# Altium schematic symbol library wulpus.SCHLIB: 68 symbols (part 1 of 2)
Pins are listed as number, name and electrical type; pins without a type are passive.

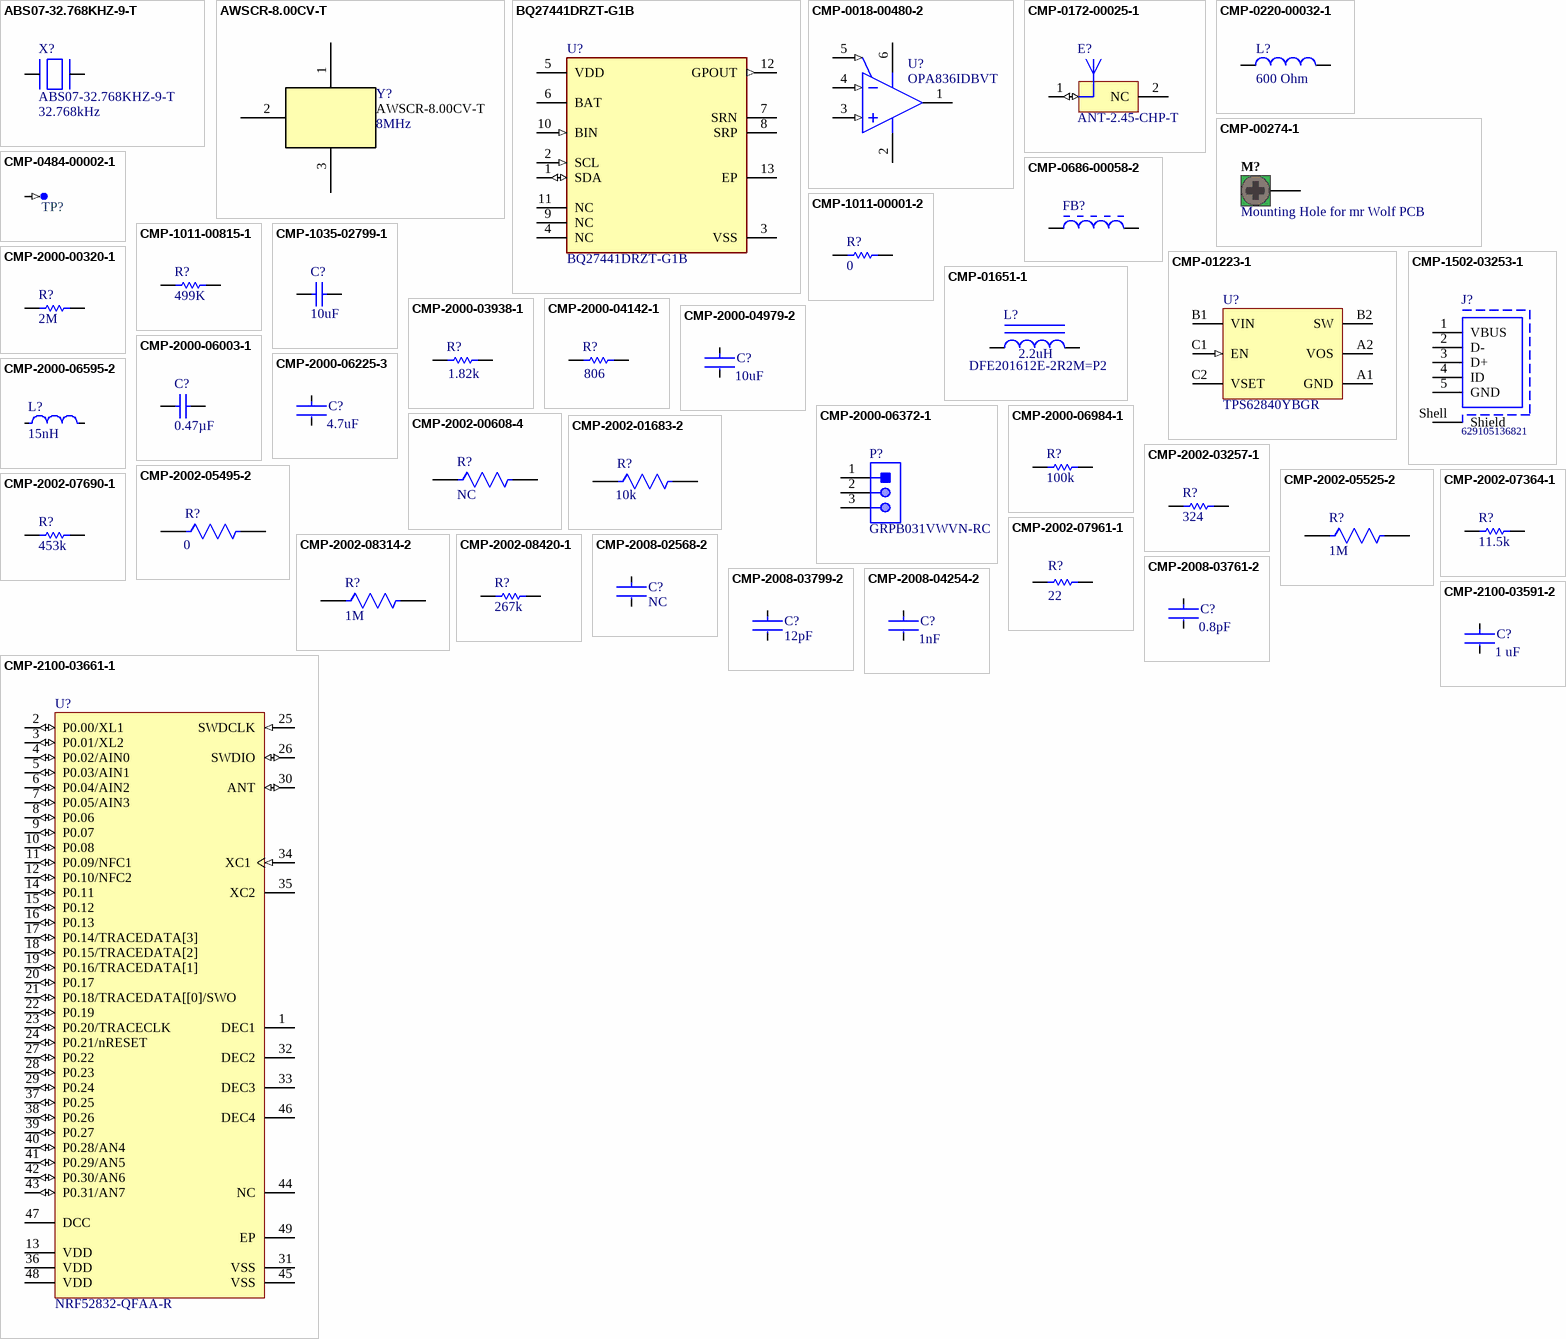
[diagram p0: symbols ABS07-32.768KHZ-9-T to CMP-2100-03661-1]

## ABS07-32.768KHZ-9-T
designator X?  Frequency: 32.768kHz
Crystal; Miniature; 3.2 x 1.5 x 0.9mm; 32.768KHZ; 9pf; 20ppm -40+85C; SMD; T/R; Manufacturer: Abracon; ESR (Equivalent Series Resistance): 70kR; Insulation Resistance: 500MR; Supplier 1: Digi-Key; Manufacturer Part Number: ABS07-32.768KHZ-9-T; RoHS: Yes; Category: Crystals; Stock 1: 83876; Pricing 1: 1=1.36000, 10=1.30000, 50=1.27000, 100=1.08860, 500=1.05840, 1000=0.89208 (USD); Mount: Surface Mount; Case/Package: CSMD; Number of Pins: 2; Min Operating Temperature: -40°C; Max Operating Temperature: 85°C; Load Capacitance: 9pF; Packaging: Tape and Reel; Frequency Tolerance: 20ppm; Package Quantity: 3000; Tolerance: 20ppm; Frequency Stability: 20ppm; Termination: SMD/SMT; Series Resistance: 70kR; Series: ABS07; Operating Frequency: 32.768 kHz; Length: 3.2mm; Width: 1.5mm; Height: 0.035inch; Depth: 1.5mm; Radiation Hardening: No; RoHS Compliant: Yes; REACH SVHC: No SVHC; Lead Free: Lead Free; ComponentLink1URL: https://datasheet.ciiva.com/855/abs07-855948.pdf?src-supplier=Digi-Key; ComponentLink1Description: https://datasheet.ciiva.com/855/abs07-855948.pdf?src-supplier=Digi-Key; Supplier Part Number 1: 535-9544-1-ND
footprint XTAL320X150X90
pins: 1, 2

## AWSCR-8.00CV-T
designator Y?  Frequency: 8MHz  (hidden comment: AWSCR-8.00CV-T)
No Description Available; Mfr_Name: Abracon; Copyright: Copyright (C) 2021 Ultra Librarian. All rights reserved.; RefDes: RefDes; Type: DEV; Manufacturer_Part_Number: AWSCR-8.00CV-T
footprint AWSCR-8.00CV-T_ABR
pins: 1, 2, 3

## BQ27441DRZT-G1B
designator U?
System-side Impedance Track™ battery fuel (gas) gauge 12-SON -40 to 85; Manufacturer: Texas Instruments; Number of Cells: 1; Interface: I2C; Min Supply Voltage: 2.45V; Max Supply Voltage: 4.5V; Output Voltage: 1.8V; Operating Supply Current: 93uA; Capacity: 8000mAh; Output Current: 500uA; Supplier 1: Mouser; Manufacturer Part Number: BQ27441DRZT-G1B; RoHS: Yes; Category: Battery Management; Stock 1: 456; Pricing 1: 1=3.05000, 10=2.74000, 50=2.59000, 100=2.25000, 1000=2.12000, 10000=2.12000 (USD); Mount: Surface Mount; Number of Pins: 12; Contact Plating: Gold; Min Operating Temperature: -40°C; Max Operating Temperature: 85°C; Package Quantity: 250; Packaging: Tape and Reel; REACH SVHC: No SVHC; Lead Free: Lead Free; RoHS Compliant: Yes; ComponentLink1URL: https://datasheet.ciiva.com/46405/1795843-46405045.pdf?src-supplier=Element14; ComponentLink1Description: https://datasheet.ciiva.com/46405/1795843-46405045.pdf?src-supplier=Element14; Supplier Part Number 1: 595-BQ27441DRZT-G1B
footprint DRZ0012A_MFG
pins: 1 SDA (io), 2 SCL (in), 3 VSS (power), 4 NC, 5 VDD (power), 6 BAT, 7 SRN, 8 SRP, 9 NC, 10 BIN (in), 11 NC, 12 GPOUT (out), 13 EP

## CMP-0018-00480-2
designator U?, comment OPA836IDBVT
Very Low Power, Rail to Rail Out, Negative Rail In, VFB Operational Amplifier, 2.5 to 5.5 V, -40 to 125 degC, 6-pin SOT23 (DBV6), Green (RoHS & no Sb/Br); Manufacturer: Texas Instruments; Iq per channel(Max)(mA): 1; Settling Time (0.1%)(Typ)(ns): 30; Vs(Min)(V): 2.5; Vio(Max)(mV): 0.4; 3rd Harmonic(dBc): 105; BW @ Acl(MHz): 205; Vs(Max)(V): 5.5; 2nd Harmonic(dBc): 85; Sub Family: Audio Operational Amplifier, High Output Current Amplifier (>=50mA), High Speed Amplifier (>=50MHz), Low Noise Amp (<=10nV/rtHz), Low Offset Voltage Amplifier (<=500uV), Low Supply Voltage Amplifier (<=2.7V); Vn at Flatband(Typ)(nV/rtHz): 4.6; Iib(Max)(nA): 1000; Slew Rate(Typ)(V/us): 560; Io(Typ)(mA): 50; Number of Channels: 1; Eco-Plan: Green (RoHS & no Sb/Br); PartNumber: OPA836IDBVT; ComponentLink3URL: http://www.ti.com/litv/pdf/mpds026h; ComponentLink3Description: Package Specification; @ MHz: 1; ComponentLink1Description: Manufacturer URL; ComponentLink2URL: http://www.ti.com/general/docs/lit/getliterature.tsp?genericPartNumber=OPA836&fileType=pdf; Acl, min stable gain(V/V): 1; PackageVersion: 4073253-5/K, 03/2006; PackageDescription: 6-Pin Plastic Small Outline, Body 1.6 x 2.9 mm, Pitch 0.95 mm; ComponentLink1URL: http://www.ti.com/; ComponentLink2Description: Datasheet; PackageReference: DBV0006A; Code_JEDEC: MO-178; DatasheetVersion: SLOS712D; Mounting Technology: Surface Mount
footprint DBV0006A_L (SOT23, 6-Leads, Body 3.05x1.75mm, Pitch 0.95mm, IPC High Density)
footprint DBV0006A_M (SOT23, 6-Leads, Body 3.05x1.75mm, Pitch 0.95mm, IPC Low Density)
footprint DBV0006A_N (SOT23, 6-Leads, Body 3.05x1.75mm, Pitch 0.95mm, IPC Medium Density)
pins: 1 VOUT (hiz) "Amplifier output", 2 VS- (power) "Negative power supply input", 3 VIN+ (in) "Amplifier non-inverting input", 4 VIN- (in) "Amplifier inverting input", 5 ~{PD} (in) "Amplifier Power Down, low = low power mode, high = normal operation (PIN MUST BE DRIVEN)", 6 VS+ (power) "Positive power supply input"

## CMP-0172-00025-1
designator E?, comment ANT-2.45-CHP-T
1/4-wave Monopole Ultra-Compact Chip Antenna, CHP Series, 2.4GHz, Tape and Reel; Note2: Pin 1 is feed terminal, Pin 2 is for physical support only.; PCB_Layout: Complies with manufacturer's recommendation.; Note1: No ground planes or traces under the antenna; PackageDescription: SMD Ceramic Antenna, CHP Series, 2.45MHz, 2-Leads, 6.5 x 2.2 x 1.0 mm Body; PackageReference: ANT-2.4-CHP; PackageVersion: Jan-2009; DatasheetVersion: Jan-2009
footprint ANT-2.4-CHP (SM Antenna, 2-Lead, Body 6.5x2.2x1.0mm)
pins: 1 FEED (io), 2 NC

## CMP-0220-00032-1
designator L?, comment Impedance: 600 Ohm  (hidden comment: 742792040)
SMD EMI Suppression Ferrite Bead WE-CBF, Z = 600 Ohm; PackageVersion: 2005; ComponentLink2Description: Datasheet; PackageDescription: Chip Inductor, 2-Leads, Body 2.0 x 1.2 mm; ComponentLink1URL: http://www.we-online.com; PackageReference: SMD-0805; DatasheetVersion: Dec-2005; ComponentLink2URL: http://www.we-online.de/katalog/media/pdf/742792040.pdf; ComponentLink1Description: Manufacturer Link
footprint SMD-0805 (Chip Inductor, 2-Leads, Body 2.0x1.2x1.1 mm)
pins: 1, 2

## CMP-00274-1
designator M?, comment Mounting Hole for mr Wolf PCB  (no BOM)
M2 Hole, 2.4mm drill, 5mm landing pads, 3mm pad in middle layers, no overlay; ClassName: Mounting Hole
footprint Hole M2 (M2 Hole, 2.4mm drill, 5mm landing pads, 3mm pad in middle layers, no overlay)
pins: 1

## CMP-0484-00002-1
designator TP?, comment TP-SM-C-100  (value not drawn)  (no BOM)
Test Point, Surface Mount, Circular, Pad Diameter 1 mm
footprint TP-SM-C-100 (Test Point, Surface Mounting, Circular, Pad Diameter 1mm)
pins: 1 (in)

## CMP-0686-00058-2
designator FB?, comment BLM03AX800SN1D  (value not drawn)
Chip Ferrite Bead for Power lines and Signal Lines, 80 Ohm, 500 mA, -55 to 125 degC, 0.6 x 0.3 x 0.33 mm SMD, Tape and Reel; Manufacturer: Murata; DC Resistance: 0.18 Ohm Max.; Rated Current: 500 mA; Impedance (at 100 MHz): 80 Ohm +/- 25%; Material: Steel; Impedance: 80R; Current Rating: 500mA; DC Resistance (DCR): 180mR; Test Frequency: 100MHz; Tolerance: 25%; Number of Lines: 1; PackageReference: BLM03-2; ComponentLink2URL: http://www.murata.com/products/catalog/pdf/c31e.pdf; ComponentLink2Description: Datasheet; ComponentLink1Description: Manufacturer URL; DatasheetVersion: 08/2013; ComponentLink1URL: http://www.murata.com/; ComponentLink3Description: Package Specification; ComponentLink3URL: http://www.murata.com/products/catalog/pdf/c31e.pdf; PackageDescription: 2-Pin Chip, Body 0.6 x 0.3 mm; Packing: Tape and Reel; Operating Temperature Range: -55 to 125 degC; Mounting Technology: Surface Mount; PartNumber: BLM03AX800SN1D; Supplier 1: Digi-Key; Supplier Part Number 1: 490-5621-1-ND; Manufacturer Part Number: BLM03AX800SN1D; RoHS: Yes; Category: Inductors; Stock 1: 13310; Pricing 1: 1=0.19000, 10=0.15200, 25=0.11840, 50=0.09820, 100=0.08470, 250=0.06776, 500=0.06098, 1000=0.05082, 5000=0.04743 (USD); Case/Package: 0201; Number of Pins: 2; Case Code (Metric): 0603; Case Code (Imperial): 0201; Min Operating Temperature: -55°C; Max Operating Temperature: 125°C; Package Quantity: 1; Packaging: Tape and Reel; Max DC Current: 500mA; Termination: SMD/SMT; Max Current Rating: 500mA; Number of Circuits: 1; Length: 0.6mm; Height: 0.3mm; Width: 0.3mm; REACH SVHC: No SVHC; ComponentLink4URL: https://datasheet.ciiva.com/1013/l0110s0100blm03ax-1013986.pdf?src-supplier=Digi-Key; ComponentLink4Description: https://datasheet.ciiva.com/1013/l0110s0100blm03ax-1013986.pdf?src-supplier=Digi-Key; ComponentLink5URL: https://datasheet.ciiva.com/41449/001172131-da-01-en-drossel-0201-80r-0-6x0-3mm-15000st-41449422.pdf?src-supplier=Conrad; ComponentLink5Description: https://datasheet.ciiva.com/41449/001172131-da-01-en-drossel-0201-80r-0-6x0-3mm-15000st-41449422.pdf?src-supplier=Conrad; ComponentLink6URL: https://datasheet.ciiva.com/1013/l0110e-1013987.pdf?src-supplier=Digi-Key; ComponentLink6Description: https://datasheet.ciiva.com/1013/l0110e-1013987.pdf?src-supplier=Digi-Key; ComponentLink7URL: https://datasheet.ciiva.com/1013/l0110e-1013988.pdf?src-supplier=Digi-Key; ComponentLink7Description: https://datasheet.ciiva.com/1013/l0110e-1013988.pdf?src-supplier=Digi-Key; ComponentLink8URL: https://datasheet.ciiva.com/46423/1851884-46423882.pdf?src-supplier=Element14; ComponentLink8Description: https://datasheet.ciiva.com/46423/1851884-46423882.pdf?src-supplier=Element14
footprint MURA-BLM03-CHIP-2_V (Chip Ferrite Bead, 2-Leads, Body 0.6x0.3mm, Height 0.33mm, Reflow, 0.9A max Rated Current)
pins: 1, 2

## CMP-1011-00001-2
designator R?, comment Resistance: 0  (hidden comment: RC0402JR-070RL)
Manufacturer: Yageo / Phycomp; Part Number: RC0402JR-070RL
footprint RESC1005X40X25NL05T10 (Chip Resistor, 2-Leads, Body 1.00x0.50mm, IPC Medium Density)
footprint RESC1005X40X25ML05T10 (Chip Resistor, 2-Leads, Body 1.00x0.50mm, IPC Low Density)
footprint RESC1005X40X25LL05T10 (Chip Resistor, 2-Leads, Body 1.00x0.50mm, IPC High Density)
pins: 1, 2
1 alternate drawing of the same symbol

## CMP-1011-00815-1
designator R?, comment value 499K  (hidden comment: not mounted)
499K 0.063W 1% 0402 (1005 Metric)  SMD; Case-EIA: 0402; Case-Metric: 1005; Tolerance: 1 %; Power: 0.063 W; Technology: SMT
footprint RESC0402(1005)_N (Chip Resistor, Body 1.0x0.5mm, IPC Medium Density)
footprint RESC0402(1005)_L (Chip Resistor, Body 1.0x0.5mm, IPC High Density)
footprint RESC0402(1005)_M (Chip Resistor, Body 1.0x0.5mm, IPC Low Density)
pins: 1, 2
1 alternate drawing of the same symbol

## CMP-1035-02799-1
designator C?, comment value 10uF  (hidden comment: C1608X5R1A106K080AC)
CAP 10uF 10V ±10% 0603 (1608 Metric) Thickness 1mm SMD; Tolerance: Â±10%; Case-Metric: 1608; Case-EIA: 0603; Max Thickness: 1 mm; Technology: SMT; Rated Voltage: 10 V
footprint CAPC0603(1608)100_N (Chip Capacitor, Body 1.6x0.8mm, Height 1.0mm, IPC Medium Density)
footprint CAPC0603(1608)100_M (Chip Capacitor, Body 1.6x0.8mm, Height 1.0mm, IPC Low Density)
footprint CAPC0603(1608)100_L (Chip Capacitor, Body 1.6x0.8mm, Height 1.0mm, IPC High Density)
pins: 1, 2
1 alternate drawing of the same symbol

## CMP-01223-1
designator U?, comment TPS62840YBGR
Switching Voltage Regulators 60-nA IQ, 1.8-V to 6.5-VIN, high-efficiency 750-mA step-down converter 6-DSBGA -40 to 125; Output Voltage: 1.8 V to 3.3 V; Input Voltage MIN: 1.8 V; Input Voltage: 1.8 V to 6.5 V; Input Voltage MAX: 6.5 V; Brand: Texas Instruments; Switching Frequency: 1.8 MHz; Output Current: 750 mA; Number of Outputs: 1 Output; Topology: Buck; Quiescent Current: 60 nA; Factory Pack Quantity: 3000; Minimum Operating Temperature: - 40 C; Maximum Operating Temperature: + 125 C; Series: TPS62840; Package/Case: DSBGA-6; Shutdown: Shutdown; Manufacturer: Texas Instruments; Mounting Style: SMD/SMT; Type: Step-Down Converter; Supply Voltage - Min: 1.8 V; Product Type: Switching Voltage Regulators; Subcategory: PMIC - Power Management ICs; Product Category: Switching Voltage Regulators
footprint BGA6C40P2X3_97X147X50 (BGA, 6-Leads, Body 0.97x1.47mmx0.50mm, Pitch 0.40mm)
pins: A1 GND (power), A2 VOS, B1 VIN (power), B2 SW (power), C1 EN (in), C2 VSET

## CMP-1502-03253-1
designator J?, comment 629105136821
Micro USB 2.0 Type B Receptacle WR-COM, Horizontal, SMT, with Pads and Pegs; Manufacturer: Wurth Elektronik; Contact Resistance: 30mOhm; Rated Current: 1A; Working Voltage: 30VAC; Datasheet URL: https://katalog.we-online.de/em/datasheet/629105136821.pdf; Mounting Technology: SMT; Publisher: WurthElektronik; Package Reference: 629105136821; Orientation: Horizontal; Packaging: TapeandReel; Part Number: 629105136821; Manufacturer URL: http://www.we-online.de; Connector Type: MicroUSB2.0TypeB; Gender: Receptacle; Operating Temperature: -40to105degC
footprint 629105136821 (Micro USB 2.0 SMT Type B Horizontal 5 Contacts)
pins: 1 VBUS, 2 D-, 3 D+, 4 ID, 5 GND, Shell Shield

## CMP-01651-1
designator L?, comment DFE201612E-2R2M=P2  value 2.2uH
2.2µH Shielded Wirewound Inductor 1.8A 116mOhm Max 0806 (2016 Metric); Manufacturer: Murata Electronics; Inductance: 2,2µH; Current Rating (Amps): 1,8A; Tolerance: ±20%; Material - Core: Metal; Current - Saturation: 2.4A; Inductance Frequency - Test: 1MHz; DC Resistance (DCR): 116mOhm Max; Ratings: -; Series: DFE201612E; Operating Temperature: -40°C ~ 125°C; Features: -; Package / Case: 0806 (2016 Metric); Q @ Freq: -; Packaging: Tape & Reel (TR); Mounting Type: Surface Mount; Frequency - Self Resonant: -; Part Status: Active; Shielding: Shielded; Type: Wirewound; Supplier Device Package: 0806; Manufacturer Part Number: DFE201612E-2R2M=P2
footprint INDC2016X10N (Chip Inductor, 2-Leads, Body 2.05x1.65mm, IPC Medium Density)
footprint INDC2016X10L (Chip Inductor, 2-Leads, Body 2.05x1.65mm, IPC High Density)
footprint INDC2016X10M (Chip Inductor, 2-Leads, Body 2.05x1.65mm, IPC Low Density)
pins: 1, 2

## CMP-2000-00320-1
designator R?, comment Parameter 1: 2M  (hidden comment: RC0603FR-072ML)
Manufacturer: YAEGO; Part Number: RC0603FR-072ML
footprint RESC1608X55X30LL15T15 (Chip Resistor, 2-Leads, Body 1.60x0.80mm, IPC High Density)
footprint RESC1608X55X30NL15T15 (Chip Resistor, 2-Leads, Body 1.60x0.80mm, IPC Medium Density)
footprint RESC1608X55X30ML15T15 (Chip Resistor, 2-Leads, Body 1.60x0.80mm, IPC Low Density)
pins: 1, 2
1 alternate drawing of the same symbol

## CMP-2000-03938-1
designator R?, comment Resistance: 1.82k  (hidden comment: RC0603FR-071K82L)
Manufacturer: Yageo; Part Number: RC0603FR-071K82L
footprint RESC1608X55X25ML10T15 (Chip Resistor, 2-Leads, Body 1.60x0.80mm, IPC Low Density)
footprint RESC1608X55X25LL10T15 (Chip Resistor, 2-Leads, Body 1.60x0.80mm, IPC High Density)
footprint RESC1608X55X25NL10T15 (Chip Resistor, 2-Leads, Body 1.60x0.80mm, IPC Medium Density)
pins: 1, 2
1 alternate drawing of the same symbol

## CMP-2000-04142-1
designator R?, comment Resistance: 806  (hidden comment: RC0603FR-07806RL)
Manufacturer: Yageo; Part Number: RC0603FR-07806RL
footprint RESC1608X55X25LL10T15 (Chip Resistor, 2-Leads, Body 1.60x0.80mm, IPC High Density)
footprint RESC1608X55X25ML10T15 (Chip Resistor, 2-Leads, Body 1.60x0.80mm, IPC Low Density)
footprint RESC1608X55X25NL10T15 (Chip Resistor, 2-Leads, Body 1.60x0.80mm, IPC Medium Density)
pins: 1, 2
1 alternate drawing of the same symbol

## CMP-2000-04979-2
designator C?, comment value 10uF  (hidden comment: C1608X5R1A106K080AC)
CAP CER 10UF 10V X5R 0603; Manufacturer: TDK; Temperature Coefficient: 15%; Tolerance: 10%; Material: Ceramic; Mouser Description: CAP CER 10UF 10V X5R 0603; Package: C1608-080; Lead Free: Yes; Device Class L1: Passive Components; Temperature Range High: +85°C; Manufacturer Part Number: C1608X5R1A106K080AC; Octopart: https://octopart.com/c1608x5r1a106k080ac-tdk-26013468; Voltage: 10V; Footprint Url: https://product.tdk.com/info/en/catalog/spec/mlccspec_commercial_general_midvoltage_en.pdf; Ipc Land Pattern Name: CAPC16080X80; Temperature Range Low: -55°C; Temperature: -55°C to +85°C; ComponentLink2Description: Datasheet; ComponentLink2URL: https://product.tdk.com/info/en/documents/chara_sheet/C1608X5R1A106K080AC.pdf; Height: 0.9mm; Temperature Characteristic: X5R; RoHS: TRUE; Category: Cap; Capacitance: 10uF; Digikey Description: CAP CER 10UF 10V X5R 0603; Automotive: No; Device Class L3: Ceramic Capacitors; Device Class L2: Capacitors; Voltage Rating: 10V
footprint FP-C1608-080-MFG
footprint FP-C1608-080-IPC_C
footprint FP-C1608-080-IPC_B
footprint FP-C1608-080-IPC_A
pins: 1, 2

## CMP-2000-06003-1
designator C?, comment Capacitance: 0.47µF  (hidden comment: C1005X5R1E474K050BB)
Chip Capacitor, 0.47 uF, +/- 10%, 25 V, -55 to 85 degC, 0402 (1005 Metric), RoHS, Tape and Reel; PCN Part Number: MLCCPartNumberChange30/Nov/2012; Manufacturer: TDK; Kits: 445-9021-KIT-ND / -KITMLCC100PF-10UF04026.3-50V; Other Names: 445-8020-1; Temperature Coefficient: X5R; Voltage - Rated: 25V; Product Training Modules: CSeriesGeneralApplicationsSEAT,CCV,andTVCLDesignToolsGuidetoReplacinganElectrolyticCapacitorwithanMLCC; EDA / CAD Models: DownloadfromAcceleratedDesigns; Online Catalog: CSeries,GeneralPurpose; Datasheet URL: https://product.tdk.com/info/en/catalog/datasheets/mlcc_commercial_general_en.pdf; Size / Dimension: 0.039"Lx0.020"W(1.00mmx0.50mm); Category: Capacitors; Mounting Technology: SurfaceMount; Mounting Type: SurfaceMount,MLCC; Series: C; RoHS Information: RoHSCertificate-MLCC; Manufacturer URL: http://www.tdk.com/; Packaging: CutTape(CT); Features: LowESL; Package / Case: 0402(1005Metric); Package Reference: 0402; Family: CeramicCapacitors; Tolerance: ±10%; Datasheet Version: 08/2016; Package Description: 2-Pin Surface Mount Device, Body 1.00 x 0.50 mm; Operating Temperature: -55°C~85°C; Standard Package: 1; Applications: GeneralPurpose
footprint CAPC1050X55X10LL05 (Chip Capacitor, 2-Leads, Body 1.05x0.55mm, IPC High Density)
footprint CAPC1050X55X10ML05 (Chip Capacitor, 2-Leads, Body 1.05x0.55mm, IPC Low Density)
footprint CAPC1050X55X10NL05 (Chip Capacitor, 2-Leads, Body 1.05x0.55mm, IPC Medium Density)
pins: 1, 2

## CMP-2000-06225-3
designator C?, comment Capacitance: 4.7uF  (hidden comment: EMK107ABJ475KA-T)
None; Voltage Rating (DC): 16V; Tolerance: 10%; Dielectric: X5R; Case/Package: 0603; Length: 1.6mm; Case Code (Imperial): 0603; Resistor Type: Ceramic; Packaging: Tape and Reel; Min Operating Temperature: -55°C; Series: M; Construction: Flat; Termination: SMD/SMT; Max Operating Temperature: 85°C; Voltage Rating: 16V; Width: 0.8mm; Case Code (Metric): 1608; Number of Pins: 2; RoHS Compliant: Yes; REACH SVHC: No SVHC; Package Quantity: 1; Thickness: 0.035inch; Height: 0.8mm; Mount: Surface Mount
footprint FP-0603-L_1_6_0_15-W_0_8-IPC_A
footprint FP-0603-L_1_6_0_15-W_0_8-IPC_B
simulation model EMK107ABJ475_A-T
footprint FP-0603-L_1_6_0_15-W_0_8-IPC_C
footprint FP-0603-L_1_6_0_15-W_0_8-MFG
pins: 1, 2

## CMP-2000-06372-1
designator P?, comment GRPB031VWVN-RC
Male Header, Pitch 1.27 mm, 1 x 3 Position, Height 4 mm, Tail Length 2.3 mm, -40 to 105 degC, RoHS, Bulk; Manufacturer: Sullins; Other Names: S9014E-03; Number of Positions: 3; Connector Type: Header,Unshrouded; Pitch: 0.050"(1.27mm); Dynamic Catalog: GRPB; Catalog Drawings: S9014ESeriesTop; Mating Products: S9010E-03-ND / -CONNHEADER.050"3POSR/APCB / S9008E-03-ND / -CONNHEADER.050"3POSPCBGOLD / S9005E-03-ND / -CONNHEADER.050"3POSSMDGOLD; Number of Positions Loaded: All; Contact Finish: Gold; Mounting Type: ThroughHole; Termination: Solder; Packaging: Bulk; Category: Connectors,Interconnects; Package Description: Male Header, Pitch 1.27 mm, 1 x 3 Position, Height 4 mm, Tail Length 2.3 mm; Standard Package: 1; Datasheet URL: http://www.sullinscorp.com/drawings/71_GRPB___1VWVN-RC,_10957-C.pdf; Package Reference: GRPB031VWVN-RC; Family: RectangularConnectors-Headers,MalePins; Number of Rows: 1; Contact Type: MalePin; Manufacturer URL: http://www.sullinscorp.com/; Mounting Technology: ThroughHole; Contact Mating Length: 0.118"(3.00mm); Contact Finish Thickness: Flash; Datasheet Version: Rev. C, 12/2008
footprint SLIN-GRPB031VWVN-RC_V (Header, 3-Leads, Body 3.81x2.14mm, Pitch 1.27mm)
pins: 1, 2, 3

## CMP-2000-06595-2
designator L?, comment Inductance: 15nH  (hidden comment: LQW15AN15NJ00D)
Wire Wound RF Inductor 15nH ±5% 460mA 0.16Ω 0402 (1005); Test Frequency: 100MHz; DC Resistance (DCR): 160mR; Shielding: Unshielded; Q Factor: 30; Core Material: Air; Self Resonant Frequency: 5GHz; Resistor Type: Wirewound; DC Current: 460mA; Weight: 2.8E-05oz; Radiation Hardening: No; Depth: 0.7mm; Package Quantity: 10000; Case/Package: 0402; Packaging: Tape and Reel; Length: 1mm; Max DC Current: 460mA; Case Code (Imperial): 0402; Tolerance: 5%; Min Operating Temperature: -55°C; Lead Free: Lead Free; Width: 0.02inch; Case Code (Metric): 1005; Termination: SMD/SMT; Military Standard: Not; Current Rating: 460mA; Height: 0.5mm; Mount: Surface Mount; Max Operating Temperature: 125°C
footprint FP-LQW15AN_00-W0_6-0_1-MFG
pins: 1, 2

## CMP-2000-06984-1
designator R?, comment Resistance (Ohms): 100k  (hidden comment: RMCF0402FT100K)
Chip Resistor, 100 KOhm, +/- 1%, 63 mW, -55 to 155 degC, 0402 (1005 Metric), RoHS, Tape and Reel; Manufacturer: Stackpole-Electronics-Inc.; Temperature Coefficient: ±100ppm/°C; Power (Watts): 0.063W,1/16W; Category: Resistors; Mounting Technology: SurfaceMount; Family: ChipResistor-SurfaceMount; Package / Case: 0402(1005Metric); Supplier Device Package: 0402; Features: AutomotiveAEC-Q200; Package Reference: 0402; Operating Temperature: -55°C~155°C; Series: RMCF; Number of Terminations: 2; Package Description: 2-Pin Surface Mount Device, Body 1 x 0.5 mm; Datasheet Version: 01/2017; Tolerance: ±1%; Composition: ThickFilm; Packaging: CutTape(CT); Manufacturer URL: https://www.seielect.com/; Datasheet URL: https://www.seielect.com/Catalog/SEI-RMCF_RMCP.pdf
footprint RESC1005X40X25LL10T15 (Chip Resistor, 2-Leads, Body 1.1x0.55mm, IPC High Density)
footprint RESC1005X40X25ML10T15 (Chip Resistor, 2-Leads, Body 1.1x0.55mm, IPC Low Density)
footprint RESC1005X40X25NL10T15 (Chip Resistor, 2-Leads, Body 1.1x0.55mm, IPC Medium Density)
pins: 1, 2

## CMP-2002-00608-4
designator R?  Resistance: NC
not mounted; Voltage Rating (DC): 50V; Tolerance: 1%; Power Rating: 100mW; Temperature Coefficient: 100ppm/°C; Case/Package: 0402; Length: 1mm; Package Quantity: 1; Radiation Hardening: No; Case Code (Metric): 1005; Contact Plating: Tin; Mount: Surface Mount; Depth: 0.5mm; Max Operating Temperature: 155°C; Lead Free: Lead Free; Width: 0.5mm; Composition: Thick Film; Case Code (Imperial): 0402; Termination: SMD/SMT; Number of Pins: 2; Height: 0.35mm; Voltage Rating: 50V; Military Standard: Not; REACH SVHC: No SVHC; Packaging: Tape and Reel; Min Operating Temperature: -55°C; Max Power Dissipation: 100mW; Features: Automotive AEC-Q200; Number of Terminations: 2
footprint FP-ERJ2RK-IPC_C
footprint FP-ERJ2RK-IPC_A
footprint FP-ERJ2RK-IPC_B
footprint FP-ERJ2RK-MFG
pins: 1, 2

## CMP-2002-01683-2
designator R?, comment value 10k  (hidden comment: TNPW040210K0BEED)
RES 10K OHM 0.1% 1/10W 0402; Manufacturer: Vishay; Power Rating: 0.1W; Temperature Coefficient: 25ppm/°C; Automotive Grade: Grade 0; Voltage Rating: 50V; Resistance: 10kΩ; Automotive: Yes; Digikey Description: RES 10K OHM 0.1% 1/10W 0402; Device Class L2: Resistors; Manufacturer Part Number: TNPW040210K0BEED; Temperature: -55°C to +155°C; ComponentLink2Description: Datasheet; Ipc Land Pattern Name: RESC10050X35; Temperature Range High: +155°C; Composition: Thin Film; Tolerance: 0.1%; Device Class L3: Chip SMD Resistors; Package: TNPW0402-e3; Octopart: https://octopart.com/tnpw040210k0beed-vishay-41229038; Device Class L1: Passive Components; Series: TNPW; Temperature Range Low: -55°C; Height: 0.4mm; Category: Res; Lead Free: Yes; RoHS: TRUE; ComponentLink2URL: http://www.vishay.com/docs/28758/tnpw_e3.pdf
footprint FP-TNPW0402-e3-MFG
footprint FP-TNPW0402-e3-IPC_C
footprint FP-TNPW0402-e3-IPC_B
footprint FP-TNPW0402-e3-IPC_A
pins: 1, 2

## CMP-2002-03257-1
designator R?, comment Resistance: 324  (hidden comment: CPF0402B324RE1)
Manufacturer: TE Connectivity / AMP; Part Number: CPF0402B324RE1
footprint RESC1005X35X20ML05T10 (Chip Resistor, 2-Leads, Body 1.00x0.50mm, IPC Low Density)
footprint RESC1005X35X20NL05T10 (Chip Resistor, 2-Leads, Body 1.00x0.50mm, IPC Medium Density)
footprint RESC1005X35X20LL05T10 (Chip Resistor, 2-Leads, Body 1.00x0.50mm, IPC High Density)
pins: 1, 2
1 alternate drawing of the same symbol

## CMP-2002-05495-2
designator R?, comment Resistance: 0  (hidden comment: CR0402-J/-000GLF)
Thick Film Chip Resistors 0402 0Ω 0.0625W 5%; Voltage Rating (DC): 50V; Max Power Dissipation: 63mW; Temperature Coefficient: 500ppm/°C; Power Rating: 62.5mW; Depth: 0.5mm; Packaging: Tape and Reel; REACH SVHC: No SVHC; Max Operating Temperature: 125°C; Case Code (Metric): 1005; Case Code (Imperial): 0402; Case/Package: 0402; Number of Pins: 2; Thickness: 356um; Composition: Thick Film; Voltage Rating: 50V; Min Operating Temperature: -55°C; Tolerance: 5%; Radiation Hardening: No; Height: 0.35mm; Termination: SMD/SMT; Width: 0.5mm; Mount: Surface Mount; Package Quantity: 10000; Contact Plating: Tin; Length: 1mm
footprint FP-CR0402-IPC_B
footprint FP-CR0402-IPC_C
footprint FP-CR0402-IPC_A
footprint FP-CR0402-MFG
pins: 1, 2

## CMP-2002-05525-2
designator R?, comment Resistance: 1M  (hidden comment: CR0402-JW-105GLF)
Thick Film Chip Resistors 0402 1MΩ 0.0625W 5% 200ppm/°C; Voltage Rating: 50V; Max Power Dissipation: 63mW; Power Rating: 62.5mW; Case/Package: 0402; Depth: 0.5mm; Case Code (Imperial): 0402; Width: 0.02inch; Length: 1mm; Tolerance: 5%; Min Operating Temperature: -55°C; Number of Terminations: 2; Thickness: 356um; Case Code (Metric): 1005; Radiation Hardening: No; Height: 0.016inch; Military Standard: Not; Mount: Surface Mount; Termination: SMD/SMT; Composition: Thick Film; Temperature Coefficient: 200ppm/°C; Contact Plating: Tin; Packaging: Tape and Reel; Package Quantity: 10000; Max Operating Temperature: 125°C
footprint FP-CR0402-MFG
footprint FP-CR0402-IPC_C
footprint FP-CR0402-IPC_B
footprint FP-CR0402-IPC_A
pins: 1, 2

## CMP-2002-07364-1
designator R?, comment Resistance: 11.5k  (hidden comment: RC0402FR-0711K5L)
Manufacturer: Yageo / Phycomp; Part Number: RC0402FR-0711K5L
footprint RESC1005X40X25ML05T10 (Chip Resistor, 2-Leads, Body 1.00x0.50mm, IPC Low Density)
footprint RESC1005X40X25LL05T10 (Chip Resistor, 2-Leads, Body 1.00x0.50mm, IPC High Density)
footprint RESC1005X40X25NL05T10 (Chip Resistor, 2-Leads, Body 1.00x0.50mm, IPC Medium Density)
pins: 1, 2
1 alternate drawing of the same symbol

## CMP-2002-07690-1
designator R?, comment Resistance: 453k  (hidden comment: RC0402FR-07453KL)
Manufacturer: Yageo; Part Number: RC0402FR-07453KL
footprint RESC1005X40X25NL05T10 (Chip Resistor, 2-Leads, Body 1.00x0.50mm, IPC Medium Density)
footprint RESC1005X40X25ML05T10 (Chip Resistor, 2-Leads, Body 1.00x0.50mm, IPC Low Density)
footprint RESC1005X40X25LL05T10 (Chip Resistor, 2-Leads, Body 1.00x0.50mm, IPC High Density)
pins: 1, 2
1 alternate drawing of the same symbol

## CMP-2002-07961-1
designator R?, comment Resistance: 22  (hidden comment: RC0402JR-0722RL)
Manufacturer: Yageo / Phycomp; Part Number: RC0402JR-0722RL
footprint RESC1005X40X25NL05T10 (Chip Resistor, 2-Leads, Body 1.00x0.50mm, IPC Medium Density)
footprint RESC1005X40X25LL05T10 (Chip Resistor, 2-Leads, Body 1.00x0.50mm, IPC High Density)
footprint RESC1005X40X25ML05T10 (Chip Resistor, 2-Leads, Body 1.00x0.50mm, IPC Low Density)
pins: 1, 2
1 alternate drawing of the same symbol

## CMP-2002-08314-2
designator R?, comment Resistance: 1M  (hidden comment: CRCW04021M00FKED)
RES Thick Film, 1MΩ, 1%, 0.063W, 100ppm/°C, 0402; Power Rating: 63mW; Voltage Rating (DC): 50V; Min Operating Temperature: -55°C; Lead Free: Lead Free; Case Code (Imperial): 0402; Packaging: Tape and Reel; Case Code (Metric): 1005; Tolerance: 1%; Number of Terminations: 2; Features: Automotive AEC-Q200; Number of Pins: 2; Max Power Dissipation: 63mW; Height: 0.35mm; Weight: 2.3E-05oz; Package Quantity: 10; Contact Plating: Tin; Temperature Coefficient: 100ppm/°C; Radiation Hardening: No; Length: 1mm; Termination: SMD/SMT; Depth: 0.5mm; Case/Package: 0402; Voltage Rating: 50V; Composition: Thick Film; Width: 0.02inch; Max Operating Temperature: 155°C; Military Standard: Not
footprint FP-CRCW0402-e3-MFG
footprint FP-CRCW0402-e3-IPC_C
footprint FP-CRCW0402-e3-IPC_B
footprint FP-CRCW0402-e3-IPC_A
pins: 1, 2

## CMP-2002-08420-1
designator R?, comment Resistance: 267k  (hidden comment: CRCW0402267KFKED)
Manufacturer: Vishay Dale; Part Number: CRCW0402267KFKED
footprint RESC1005X40X25NL05T05 (Chip Resistor, 2-Leads, Body 1.00x0.50mm, IPC Medium Density)
footprint RESC1005X40X25LL05T05 (Chip Resistor, 2-Leads, Body 1.00x0.50mm, IPC High Density)
footprint RESC1005X40X25ML05T05 (Chip Resistor, 2-Leads, Body 1.00x0.50mm, IPC Low Density)
pins: 1, 2
1 alternate drawing of the same symbol

## CMP-2008-02568-2
designator C?, comment Capacitance: NC  (hidden comment: not mounted)
Tolerance: 5%; Voltage: 50V; Insulation Resistance: 1GR; Dielectric: C0G; Dissipation Factor: 2.5%; Temperature Coefficient: 30ppm/°C; Depth: 0.5mm; Max Operating Temperature: 125°C; Contact Plating: Tin; Width: 0.02inch; Radiation Hardening: No; Case/Package: 0402; Voltage Rating: 50V; Packaging: Tape and Reel; Termination: SMD/SMT; REACH SVHC: No SVHC; Case Code (Metric): 1005; Mount: Surface Mount; Package Quantity: 1; Height: 0.56mm; Construction: Flat; Case Code (Imperial): 0402; RoHS Compliant: Yes; Voltage Rating (DC): 50V; Thickness: 0.022inch; Series: -; Min Operating Temperature: -55°C; Lead Free: Lead Free; Length: 1mm
footprint FP-04025A101JAT2A-MFG
footprint FP-04025A101JAT2A-IPC_C
footprint FP-04025A101JAT2A-IPC_B
footprint FP-04025A101JAT2A-IPC_A
pins: 1, 2

## CMP-2008-03761-2
designator C?, comment Capacitance: 0.8pF  (hidden comment: GJM1555C1HR80WB01D)
Multi-Layer Ceramic Capacitor 0.8pF C0G  ±0.05pF 0402 Paper T/R; Voltage Rating: 50V; Height: 0.5mm; Package Quantity: 10000; Min Operating Temperature: -55°C; Dielectric: C0G; Max Operating Temperature: 125°C; Case Code (Metric): 1005; Thickness: 0.022inch; Width: 0.02inch; Radiation Hardening: No; Packaging: Tape and Reel; Case Code (Imperial): 0402; Case/Package: 0402; Mount: Surface Mount; Voltage Rating (DC): 50V; Termination: SMD/SMT; Depth: 0.5mm; Length: 1mm
footprint FP-GJM155-0_05-IPC_A
footprint FP-GJM155-0_05-MFG
footprint FP-GJM155-0_05-IPC_B
footprint FP-GJM155-0_05-IPC_C
pins: 1, 2

## CMP-2008-03799-2
designator C?, comment Capacitance: 12pF  (hidden comment: GJM1555C1H120GB01D)
Multi-Layer Ceramic Capacitor 12pF C0G  ±2% 0402 Paper T/R; Voltage Rating: 50V; Tolerance: 2%; Length: 1mm; Width: 0.5mm; Thickness: 0.022inch; Package Quantity: 10000; Lead Free: Lead Free; Mount: Surface Mount; Voltage Rating (DC): 50V; Max Operating Temperature: 125°C; Termination: SMD/SMT; Depth: 0.5mm; Min Operating Temperature: -55°C; Height: 0.5mm; Case Code (Imperial): 0402; Case/Package: 0402; Case Code (Metric): 1005; Dielectric: C0G; Packaging: Tape and Reel; Radiation Hardening: No
footprint FP-GJM155-0_05-IPC_A
footprint FP-GJM155-0_05-MFG
footprint FP-GJM155-0_05-IPC_C
footprint FP-GJM155-0_05-IPC_B
pins: 1, 2

## CMP-2008-04254-2
designator C?, comment Capacitance: 1nF  (hidden comment: GRM1555C1H102JA01D)
Chip Multilayer Ceramic Capacitors for General Purpose, 0402, 1000pF, C0G, 30ppm/°C, 5%, 50V; Insulation Resistance: 10GR; Packaging: Tape and Reel; Lead Free: Lead Free; Tolerance: 5%; Temperature Coefficient: 30ppm/°C; Thickness: 0.022inch; Termination: SMD/SMT; Max Operating Temperature: 125°C; Height: 0.5mm; Package Quantity: 1; Radiation Hardening: No; Material: Ceramic; Case Code (Metric): 1005; Number of Pins: 2; Voltage Rating: 50V; Mount: Surface Mount; Voltage: 50V; Case/Package: 0402; Min Operating Temperature: -55°C; Dielectric Material: Ceramic; Width: 0.5mm; Depth: 0.5mm; Case Code (Imperial): 0402; REACH SVHC: No SVHC; Dielectric: C0G; Voltage Rating (DC): 50V; Length: 1mm
footprint FP-GRM155-0_05-IPC_B
footprint FP-GRM155-0_05-IPC_A
footprint FP-GRM155-0_05-MFG
footprint FP-GRM155-0_05-IPC_C
pins: 1, 2

## CMP-2100-03591-2
designator C?, comment Capacitance: 1 uF  (hidden comment: CC0402KRX5R5BB105)
CAP CER 1UF 6.3V X5R 0402; Manufacturer: YAGEO; Automotive Grade: NA; Material: Ceramic; Tolerance: 0.1; Temperature Coefficient: 30ppm/°C; Voltage Rating: 6.3 V; Temperature Range Low: -55°C; Digikey Description: CAP CER 1UF 6.3V X5R 0402; Height: 0.55mm; Automotive: No; ComponentLink2URL: http://www.yageo.com/documents/recent/UPY-GP_NP0_16V-to-50V_16.pdf; Device Class L2: Capacitors; RoHS: TRUE; Temperature Range High: +125°C; Device Class L3: Ceramic Capacitors; Device Class L1: Passive Components; Temperature Characteristic: X5R; Package: CC0402; Octopart: https://octopart.com/cc0402krx5r5bb105-yageo-42244618; ComponentLink2Description: Datasheet; Temperature: -55°C to +125°C; Manufacturer Part Number: CC0402KRX5R5BB105; Mouser Description: Multilayer Ceramic Capacitors MLCC - SMD/SMT 1uF 6.3V X5R 10%; Category: Cap; Footprint Url: http://www.yageo.com/exep/pages/download/literatures/UPY-C_GEN_24.pdf; Lead Free: Yes; Ipc Land Pattern Name: CAPC10050X50; Value: 1 uF
footprint FP-CC0402-MFG
footprint FP-CC0402-IPC_C
footprint FP-CC0402-IPC_B
footprint FP-CC0402-IPC_A
pins: 1, 2

## CMP-2100-03661-1
designator U?, comment NRF52832-QFAA-R
Multiprotocol Bluetooth Smart, ANT/ANT+ and Proprietary System-on-Chip, 2.4 GHz, 256 KB FLASH, 1.7 to 3.6 V, -40 to 85 degC, 48-Pin QFN, RoHS, Tape and Reel; Manufacturer: Nordic Semiconductor; Frequency: 2.4GHz; Datasheet Version: Rev. 1.0, 02/2016; Datasheet URL: http://infocenter.nordicsemi.com/pdf/nRF52832_PS_v1.0.pdf; Mount: SurfaceMount; Max Operating Temperature: 85degC; Manufacturer URL: http://www.nordicsemi.com/eng/Products/; Lead Free: LeadFree; Min Operating Temperature: -40degC; RoHSCompliant: true; Package Reference: QF-48; Package Description: 48-Pin Quad Flat No-lead Package, Body 6 x 6 mm, Pitch 0.4 mm, Thermal Pad 4.6 x 4.6 mm; Max Frequency: 2.4GHz; Packaging: TapeandReel
footprint NRSC-QF-48_M (QFN, 48-Leads, Body 6.00x6.00mm, Pitch 0.40mm, Thermal Pad 4.60x4.60mm, IPC Low Density)
footprint NRSC-QF-48_N (QFN, 48-Leads, Body 6.00x6.00mm, Pitch 0.40mm, Thermal Pad 4.60x4.60mm, IPC Medium Density)
footprint NRSC-QF-48_L (QFN, 48-Leads, Body 6.00x6.00mm, Pitch 0.40mm, Thermal Pad 4.60x4.60mm, IPC High Density)
pins: 1 DEC1 "Power supply decoupling.", 2 P0.00/XL1 (io), 3 P0.01/XL2 (io), 4 P0.02/AIN0 (io), 5 P0.03/AIN1 (io), 6 P0.04/AIN2 (io), 7 P0.05/AIN3 (io), 8 P0.06 (io) "General purpose I/O pin.", 9 P0.07 (io) "General purpose I/O pin.", 10 P0.08 (io) "General purpose I/O pin.", 11 P0.09/NFC1 (io), 12 P0.10/NFC2 (io), 13 VDD (power) "Power-supply pin.", 14 P0.11 (io) "General purpose I/O pin.", 15 P0.12 (io) "General purpose I/O pin.", 16 P0.13 (io) "General purpose I/O pin.", 17 P0.14/TRACEDATA[3] (io), 18 P0.15/TRACEDATA[2] (io), 19 P0.16/TRACEDATA[1] (io), 20 P0.17 (io) "General purpose I/O pin", 21 P0.18/TRACEDATA[[0]/SWO (io), 22 P0.19 (io) "General purpose I/O pin", 23 P0.20/TRACECLK (io), 24 P0.21/nRESET (io), 25 SWDCLK (in) "Serial Wire Debug clock input for debug and programming.", 26 SWDIO (io) "Serial Wire Debug I/O for debug and programming.", 27 P0.22 (io) "General purpose I/O pin", 28 P0.23 (io) "General purpose I/O pin", 29 P0.24 (io) "General purpose I/O pin", 30 ANT (io) "Single-ended radio antenna connection.", 31 VSS (power) "Ground pin (Radio supply).", 32 DEC2 "1V3 regulator supply decoupling", 33 DEC3 "Power supply decoupling.", 34 XC1 (in) "Connection for 32 MHz crystal.", 35 XC2 "Connection for 32 MHz crystal.", 36 VDD (power) "Power-supply pin.", 37 P0.25 (io) "General purpose I/O pin", 38 P0.26 (io) "General purpose I/O pin", 39 P0.27 (io) "General purpose I/O pin", 40 P0.28/AN4 (io), 41 P0.29/AN5 (io), 42 P0.30/AN6 (io), 43 P0.31/AN7 (io), 44 NC "No connect pin. Leave unconnected.", 45 VSS (power) "Ground Pin.", 46 DEC4 "1V3 regulator supply decoupling.", 47 DCC (power) "DC/DC regulator output pin", 48 VDD (power) "Power-supply pin.", 49 EP (power) "Ground pad."

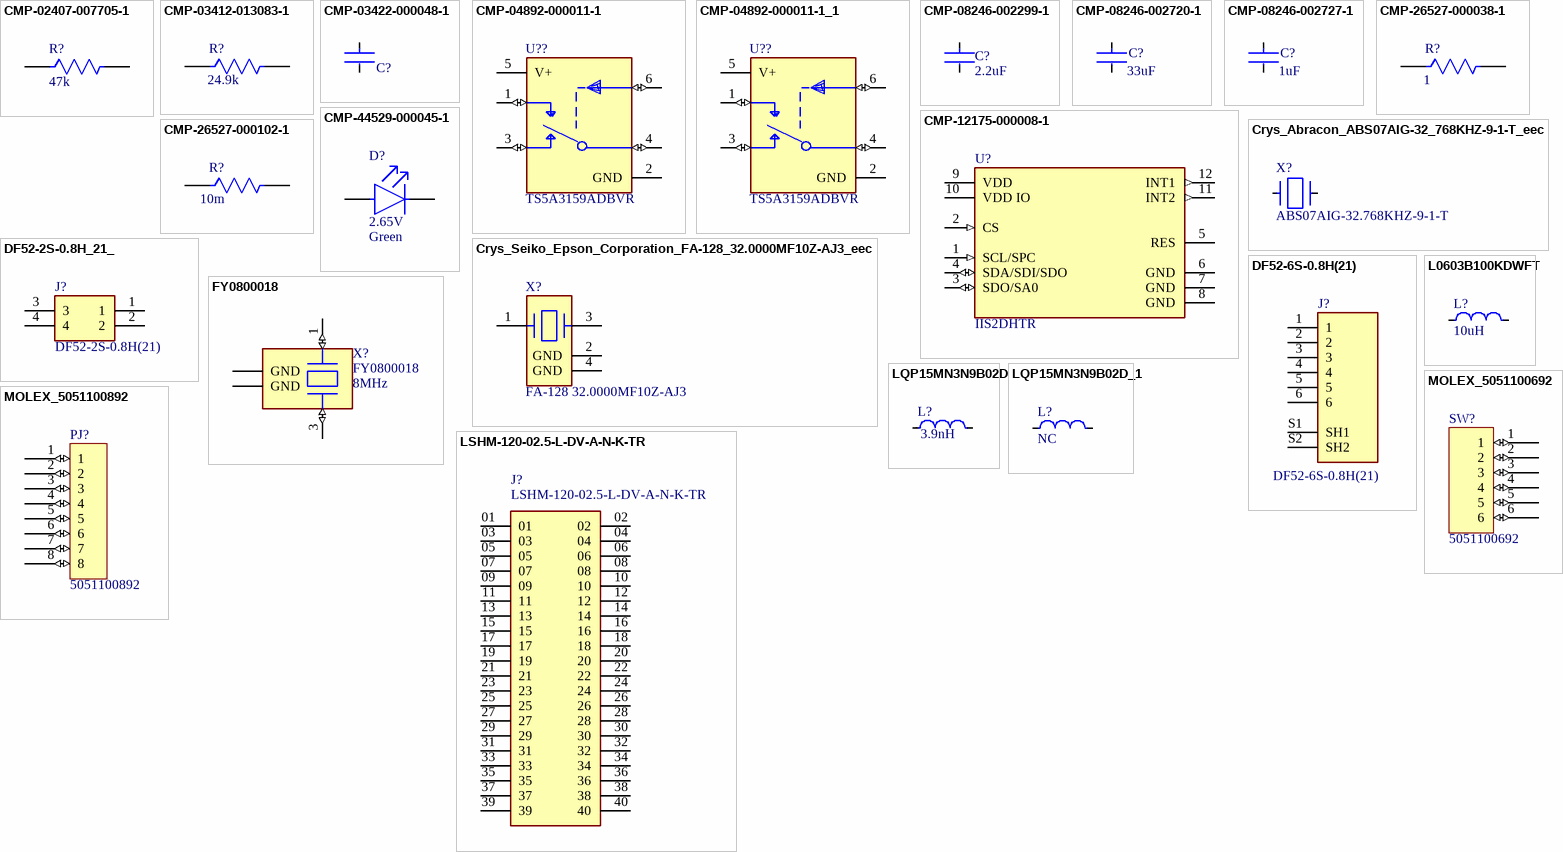
[diagram p1: symbols CMP-02407-007705-1 to MOLEX_5051100892]

## CMP-02407-007705-1
designator R?, comment Resistance: 47k  (hidden comment: CRCW040247K0FKED)
RES Thick Film, 47kΩ, 1%, 0.063W, 100ppm/°C, 0402; Voltage Rating (DC): 50V; Power Rating: 63mW; Temperature Coefficient: 100ppm/°C; Mount: Surface Mount; Radiation Hardening: No; Case Code (Imperial): 0402; Case Code (Metric): 1005; Contact Plating: Tin; Case/Package: 0402; Package Quantity: 10000; Width: 0.5mm; Lead Free: Lead Free; Packaging: Tape and Reel; Length: 1mm; Max Operating Temperature: 155°C; Min Operating Temperature: -55°C; Tolerance: 1%; Weight: 2.3E-05oz; Working Voltage: 50V; Voltage Rating: 50V; Height: 0.35mm; Depth: 0.5mm; Composition: Thick Film; Number of Terminations: 2; Termination: SMD/SMT; Military Standard: Not
footprint FP-CRCW0402-e3-IPC_C
footprint FP-CRCW0402-e3-IPC_A
footprint FP-CRCW0402-e3-MFG
footprint FP-CRCW0402-e3-IPC_B
pins: 1, 2

## CMP-03412-013083-1
designator R?, comment Resistance: 24.9k  (hidden comment: RC0603FR-0724K9L)
RES SMD 24.9K OHM 1% 1/10W 0603; Manufacturer: Yageo; Approved Alternate Part Number: 541-1.00HHCT-ND; Voltage Rating: 75V; Power Rating: 0.1W; Value: 24.9kΩ; Power: 100mW; Temperature Coefficient: 100ppm/°C; Footprint Url: https://www.yageo.com/upload/website/yageo_PYu-R_Mount_10_19050818_343.pdf; Automotive: No; Temperature Range Low: -55°C; Manufacturer Part Number: RC0603FR-0724K9L; Ipc Land Pattern Name: RESC16080X45; Digikey Description: RES SMD 24.9K OHM 1% 1/10W 0603; Voltage: 75V; Composition: Thick Film; Device Class L1: Passive Components; Device Class L2: Resistors; Device Class L3: Chip SMD Resistors; ComponentLink2URL: https://www.yageo.com/upload/media/product/productsearch/datasheet/rchip/PYu-RC_Group_51_RoHS_L_10.pdf; Series: RC_L; Octopart: https://octopart.com/rc0603fr-0724k9l-yageo-1189838; RoHS: TRUE; Category: Res; Height: 0.55mm; Tolerance: 1%; Temperature: -55°C to +155°C; Temperature Range High: +155°C; ComponentLink2Description: Datasheet; Package: RC_L0603; Lead Free: Yes; Mouser Description: Res Thick Film 1.6 x 0.8 mm 24.9K Ohm 1% 0.1W(1/10W) 100ppm/ C Molded SMD Paper T/R
footprint FP-RC_L0603-MFG
footprint FP-RC_L0603-IPC_C
footprint FP-RC_L0603-IPC_B
footprint FP-RC_L0603-IPC_A
pins: 1, 2

## CMP-03422-000048-1
designator C?, comment CC0402KRX7R7BB104  (value not drawn)
CAP CER 0.1UF 16V X7R 0402; Manufacturer: YAGEO; Material: Ceramic; Automotive Grade: NA; Capacitance: 100 nF; Temperature Coefficient: 30ppm/°C; Tolerance: 0.1; Value: 100 nF; Device Class L1: Passive Components; Temperature Range Low: -55°C; Device Class L3: Ceramic Capacitors; Temperature Characteristic: X7R; Ipc Land Pattern Name: CAPC10050X50; Temperature Range High: +125°C; Voltage Rating: 16 V; Temperature: -55°C to +125°C; RoHS: TRUE; Automotive: No; Height: 0.55mm; Device Class L2: Capacitors; Digikey Description: CAP CER 0.1UF 16V X7R 0402; Package: CC0402; Footprint Url: http://www.yageo.com/exep/pages/download/literatures/UPY-C_GEN_24.pdf; ComponentLink2Description: Datasheet; Category: Cap; Lead Free: Yes; Octopart: https://octopart.com/cc0402krx7r7bb104-yageo-42244624; ComponentLink2URL: http://www.yageo.com/documents/recent/UPY-GP_NP0_16V-to-50V_16.pdf; Manufacturer Part Number: CC0402KRX7R7BB104; Mouser Description: 0402 0.1 uF 16 V ±10 % Tolerance X7R SMT Multilayer Ceramic Capacitor
footprint FP-CC0402-MFG
footprint FP-CC0402-IPC_C
footprint FP-CC0402-IPC_B
footprint FP-CC0402-IPC_A
pins: 1, 2

## CMP-04892-000011-1
designator U??, comment TS5A3159ADBVR
IC SWITCH SPDT SOT23-6; Manufacturer: Texas Instruments; Min Supply Voltage: 1.65V; Nominal Supply Current: 0.01-5uA; Number Of Circuits: 1; Mux Demux Ratio: 2:1; Standoff Height: 0mm; Max Supply Voltage: 5.5V; On State Resistance: 1Ω; Package: DBV0006A; Device Class L3: Analog Switches; Throw Configuration: SPDT; ComponentLink2Description: Datasheet; Digikey Description: IC SWITCH SPDT SOT23-6; Automotive: No; Temperature: -40°C to +85°C; Device Class L2: Interface ICs; Ambient Temperature Range Low: -40°C; Ipc Land Pattern Name: SOT95P280X145-6; ComponentLink2URL: http://www.ti.com/lit/ds/symlink/ts5a3159a.pdf; Octopart: https://octopart.com/ts5a3159adbvr-texas+instruments-443714; Lead Free: Yes; Height: 1.45mm; Temperature Range High: +85°C; Mouser Description: Analog Switch ICs SPDT ANALOG SWITCH; Device Class L1: Integrated Circuits (ICs); Manufacturer Part Number: TS5A3159ADBVR; Category: IC; RoHS: TRUE; Ambient Temperature Range High: +85°C; Temperature Range Low: -40°C
footprint FP-DBV0006A-MFG
footprint FP-DBV0006A-IPC_C
footprint FP-DBV0006A-IPC_B
footprint FP-DBV0006A-IPC_A
pins: 1 NO (io), 2 GND (power), 3 NC (io), 4 COM (io), 5 V+ (power), 6 IN (io)

## CMP-04892-000011-1_1
designator U??, comment TS5A3159ADBVR
IC SWITCH SPDT SOT23-6; Manufacturer: Texas Instruments; Min Supply Voltage: 1.65V; Nominal Supply Current: 0.01-5uA; Number Of Circuits: 1; Mux Demux Ratio: 2:1; Standoff Height: 0mm; Max Supply Voltage: 5.5V; On State Resistance: 1Ω; Package: DBV0006A; Device Class L3: Analog Switches; Throw Configuration: SPDT; ComponentLink2Description: Datasheet; Digikey Description: IC SWITCH SPDT SOT23-6; Automotive: No; Temperature: -40°C to +85°C; Device Class L2: Interface ICs; Ambient Temperature Range Low: -40°C; Ipc Land Pattern Name: SOT95P280X145-6; ComponentLink2URL: http://www.ti.com/lit/ds/symlink/ts5a3159a.pdf; Octopart: https://octopart.com/ts5a3159adbvr-texas+instruments-443714; Lead Free: Yes; Height: 1.45mm; Temperature Range High: +85°C; Mouser Description: Analog Switch ICs SPDT ANALOG SWITCH; Device Class L1: Integrated Circuits (ICs); Manufacturer Part Number: TS5A3159ADBVR; Category: IC; RoHS: TRUE; Ambient Temperature Range High: +85°C; Temperature Range Low: -40°C
footprint BGA6C40P2X3_97X147X50
pins: 1 NO (io), 2 GND (power), 3 NC (io), 4 COM (io), 5 V+ (power), 6 IN (io)

## CMP-08246-002299-1
designator C?, comment Capacitance: 2.2uF  (hidden comment: CGA3E1X5R1C225K080AC)
Cap Ceramic 2.2uF 16V X5R 10% Pad SMD 0603 +85°C Automotive T/R; Max Operating Temperature: 85°C; Thickness: 0.035inch; Composition: Ceramic; Height: 0.8mm; Radiation Hardening: No; Tolerance: 10%; Package Quantity: 1; Case/Package: 0603; Case Code (Imperial): 0603; Termination: SMD/SMT; Depth: 0.8mm; Width: 0.031inch; Case Code (Metric): 1608; Dielectric: X5R; Voltage Rating (DC): 16V; Voltage Rating: 16V; Ratings: AEC-Q200; REACH SVHC: No SVHC; Mount: Surface Mount; Packaging: Tape and Reel; Min Operating Temperature: -55°C; Length: 1.6mm; Weight: 7.1E-05oz
footprint FP-CGA3E-0_3-0_1-MFG
footprint FP-CGA3E-0_3-0_1-IPC_A
footprint FP-CGA3E-0_3-0_1-IPC_B
footprint FP-CGA3E-0_3-0_1-IPC_C
pins: 1, 2

## CMP-08246-002720-1
designator C?, comment Capacitance: 33uF  (hidden comment: C2012X5R1A336M125AC)
Multilayer Ceramic Capacitors 33μF ±20% 10V X5R SMD 0805; Dielectric: X5R; Series: C; Packaging: Tape and Reel; Voltage Rating: 10V; Height: 1.25mm; Tolerance: 20%; Thickness: 0.057inch; Min Operating Temperature: -55°C; Max Operating Temperature: 85°C; Case Code (Imperial): 0805; Voltage Rating (DC): 10V; Case Code (Metric): 2012; Length: 2mm; REACH SVHC: No SVHC; Depth: 1.25mm; Package Quantity: 1; Dielectric Material: Ceramic; Lead Free: Lead Free; Case/Package: 0805; Termination: SMD/SMT; Resistor Type: Ceramic; RoHS Compliant: Yes; Width: 0.049inch; Weight: 0.000194oz; Mount: Surface Mount
footprint FP-C2012-125-0_2-IPC_A
footprint FP-C2012-125-0_2-IPC_B
footprint FP-C2012-125-0_2-MFG
footprint FP-C2012-125-0_2-IPC_C
pins: 1, 2

## CMP-08246-002727-1
designator C?, comment Capacitance: 1uF  (hidden comment: C1608X7R1C105K080AC)
Multilayer Ceramic Capacitors 1μF ±10% 16V X7R SMD 0603; Mount: Surface Mount; Width: 0.031inch; Radiation Hardening: No; Dielectric Material: Ceramic; Packaging: Tape and Reel; Voltage Rating: 16V; Weight: 7.1E-05oz; Termination: SMD/SMT; Package Quantity: 1; Voltage Rating (DC): 16V; REACH SVHC: No SVHC; Voltage: 16V; Min Operating Temperature: -55°C; Depth: 0.8mm; Height: 0.8mm; Length: 1.6mm; Case Code (Metric): 1608; Thickness: 0.037inch; Lead Free: Lead Free; Resistor Type: Ceramic; RoHS Compliant: Yes; Series: C; Construction: Flat; Max Operating Temperature: 125°C; Tolerance: 10%; Case/Package: 0603; Dielectric: X7R; Case Code (Imperial): 0603
footprint FP-C1608-080-0_1-IPC_B
footprint FP-C1608-080-0_1-MFG
footprint FP-C1608-080-0_1-IPC_C
footprint FP-C1608-080-0_1-IPC_A
pins: 1, 2

## CMP-12175-000008-1
designator U?, comment IIS2DHTR
ACCEL 2-16G I2C/SPI 12LGA; Manufacturer: STMicroelectronics; Operating Supply Current: 2-11uA; Max Supply Voltage: 3.7V; Accel Axis: X+Y and Z; Sensor Output: I2C,SPI; Min Supply Voltage: 1.71V; Accel Range: 2/4/8/16g; Height: 1mm; Device Class L1: Sensors; Manufacturer Part Number: IIS2DHTR; Temperature Range High: +85°C; ComponentLink2Description: Datasheet; Automotive: No; Temperature Range Low: -40°C; Package: LGA-12-8365767; Octopart: https://octopart.com/iis2dhtr-stmicroelectronics-58218805; Digikey Description: ACCEL 2-16G I2C/SPI 12LGA; ComponentLink2URL: https://www.st.com/content/ccc/resource/technical/document/datasheet/group1/35/6d/04/26/27/5c/4d/7c/DM00171283/files/DM00171283.pdf/jcr:content/translations/en.DM00171283.pdf; Temperature: -40°C to +85°C; Category: IC; RoHS: TRUE; Device Class L3: Accelerometers; Lead Free: Yes; Device Class L2: Motion Sensors
footprint FP-LGA-12-8365767-MFG
pins: 1 SCL/SPC (in), 2 CS (in), 3 SDO/SA0 (io), 4 SDA/SDI/SDO (io), 5 RES, 6 GND (power), 7 GND (power), 8 GND (power), 9 VDD (power), 10 VDD IO (power), 11 INT2 (out), 12 INT1 (out)

## CMP-26527-000038-1
designator R?, comment Resistance: 1  (hidden comment: CSR0402FK1R00)
RES 1 OHM 1% 1/8W 0402; Max Power Dissipation: 125mW; Temperature Coefficient: 200ppm/°C; Max Operating Temperature: 155°C; RoHS Compliant: Yes; Case Code (Imperial): 0402; Package Quantity: 1000; Mount: Surface Mount; Width: 0.02inch; Case/Package: 0402; Packaging: Tape and Reel; Resistor Type: Thick Film; Tolerance: 1%; Length: 0.039inch; Case Code (Metric): 1005; Min Operating Temperature: -55°C; Number of Terminations: 2; Series: CSR; Height: 0.017inch
footprint FP-CSR0402-MFG
footprint FP-CSR0402-IPC_C
footprint FP-CSR0402-IPC_B
footprint FP-CSR0402-IPC_A
pins: 1, 2

## CMP-26527-000102-1
designator R?, comment Resistance: 10m  (hidden comment: CSRF0402FT10L0)
RES 0.01 OHM 1% 1/8W 0402; Max Power Dissipation: 125mW; Temperature Coefficient: 200ppm/°C; Features: Moisture Resistant; Case Code (Metric): 1005; Packaging: Cut Tape; Max Operating Temperature: 170°C; Lead Free: Lead Free; Length: 0.039inch; RoHS Compliant: Yes; Case Code (Imperial): 0402; Min Operating Temperature: -55°C; Mount: Surface Mount; Height: 0.022inch; Package Quantity: 1; Series: CSRF; Number of Terminations: 2; Resistor Type: Metal Foil; Width: 0.022inch; Tolerance: 1%; Case/Package: 0402
footprint FP-CSRF0402-high-IPC_A
footprint FP-CSRF0402-high-IPC_B
footprint FP-CSRF0402-high-MFG
footprint FP-CSRF0402-high-IPC_C
pins: 1, 2

## CMP-44529-000045-1
designator D?, comment Forward Voltage: 2.65V  Color: Green  (hidden comment: APHD1608LZGCK)
LED GREEN CLEAR 1608 SMD; Test Current: 2mA; Dominant Wavelength: 525nm; Lens Color: Colorless; Luminous Intensity: 180mcd; Viewing Angle: 100°; Lens Size: 0.7mm; Lens Style: Round; Mount: Surface Mount; Packaging: Tape and Reel; Lens Transparency: Clear; Height: 0.75mm; Case/Package: 0603; Length: 1.6mm; Case Code (Metric): 1608; Width: 0.8mm; Case Code (Imperial): 0603
footprint FP-APHD1608LZGCK-MFG
pins: 1 C, 2 A

## Crys_Abracon_ABS07AIG-32_768KHZ-9-1-T_eec
designator X?, comment ABS07AIG-32.768KHZ-9-1-T
Crystal; Part Nr: ABS07AIG-32.768KHZ-9-1-T
footprint Crys_Abracon_ABS07AIG-32_768KHZ-9-1-T_eec_MFG
pins: 1, 2

## Crys_Seiko_Epson_Corporation_FA-128_32.0000MF10Z-AJ3_eec
designator X?, comment FA-128 32.0000MF10Z-AJ3
Crystal; Part Nr: FA-128 32.0000MF10Z-AJ3
footprint Crys_Seiko_Epson_Corporation_FA-128_32.0000MF10Z-AJ3_eec_0
pins: 1, 2 GND, 3, 4 GND

## DF52-2S-0.8H_21_
designator J?, comment DF52-2S-0.8H(21)
Connector; Manufacturer_Name: Hirose; Datasheet Link: https://datasheet.datasheetarchive.com/originals/distributors/DKDS-30/591726.pdf; Height: 1mm; Manufacturer_Part_Number: DF52-2S-0.8H(21); Mouser Part Number: 798-DF52-2S-0.8H21; Mouser Price/Stock: https://www.mouser.co.uk/ProductDetail/Hirose-Connector/DF52-2S-0.8H21?qs=%2FKR40Cd6GUpAHUMGMtWbig%3D%3D
footprint DF522S08H21
pins: 1, 2, 3, 4

## DF52-6S-0.8H(21)
designator J?
6 Position Socket Connector Surface Mount, Right Angle; MP: DF52-6S-0.8H_21_; MF: Hirose; Availability: Unavailable; SnapEDA_Link: https://www.snapeda.com/parts/DF52-6S-0.8H%2821%29/Hirose%20Electric%20Co%20Ltd/view-part/624923/?ref=snap; Value: *; Price: None; Package: None
footprint HIROSE_DF52-6S-0.8H(21)
pins: 1, 2, 3, 4, 5, 6, S1 SH1, S2 SH2